# EAGLE library part CONNECTOR_7 (library SnapEDA)
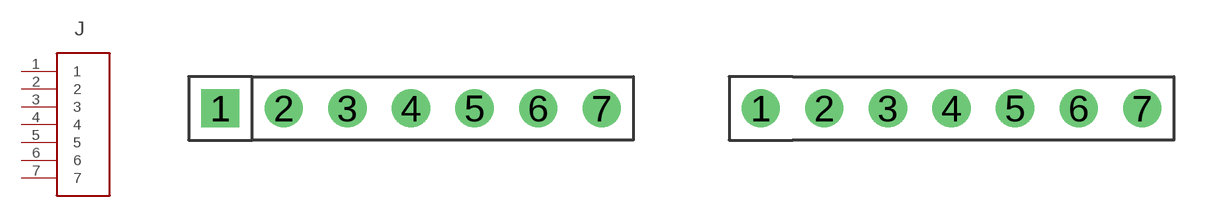
[diagram p18: symbol with the pads of 68000-107HLF; footprints 68000-107HLF, 68000-107HLF_NO_SQUARE]

Designator prefix J

## CONNECTOR_7  [68000-107HLF]
1  1
2  2
3  3
4  4
5  5
6  6
7  7

## CONNECTOR_7-NO_SQUARE  [68000-107HLF_NO_SQUARE]
Pads as for 68000-107HLF

## Footprint 68000-107HLF (pad centres in mm)
drill 1.016 square: 1 0,0
drill 1.016: 2 2.54,0; 3 5.08,0; 4 7.62,0; 5 10.16,0; 6 12.7,0; 7 15.24,0

## Footprint 68000-107HLF_NO_SQUARE (pad centres in mm)
drill 1.016: 1 0,0; 2 2.54,0; 3 5.08,0; 4 7.62,0; 5 10.16,0; 6 12.7,0; 7 15.24,0